# Altium footprint library Bauteile.PcbLib: 15 footprints
Each footprint in its own frame and in the unit in brackets; x right, y up, seen from the top. Pads: shape width x height; smd on the part's side, far side on the other; paste and mask are expansions set on the pad; w line width, h text height; cw(c..) or ccw(c..) is an arc to the next point about the centre after c.
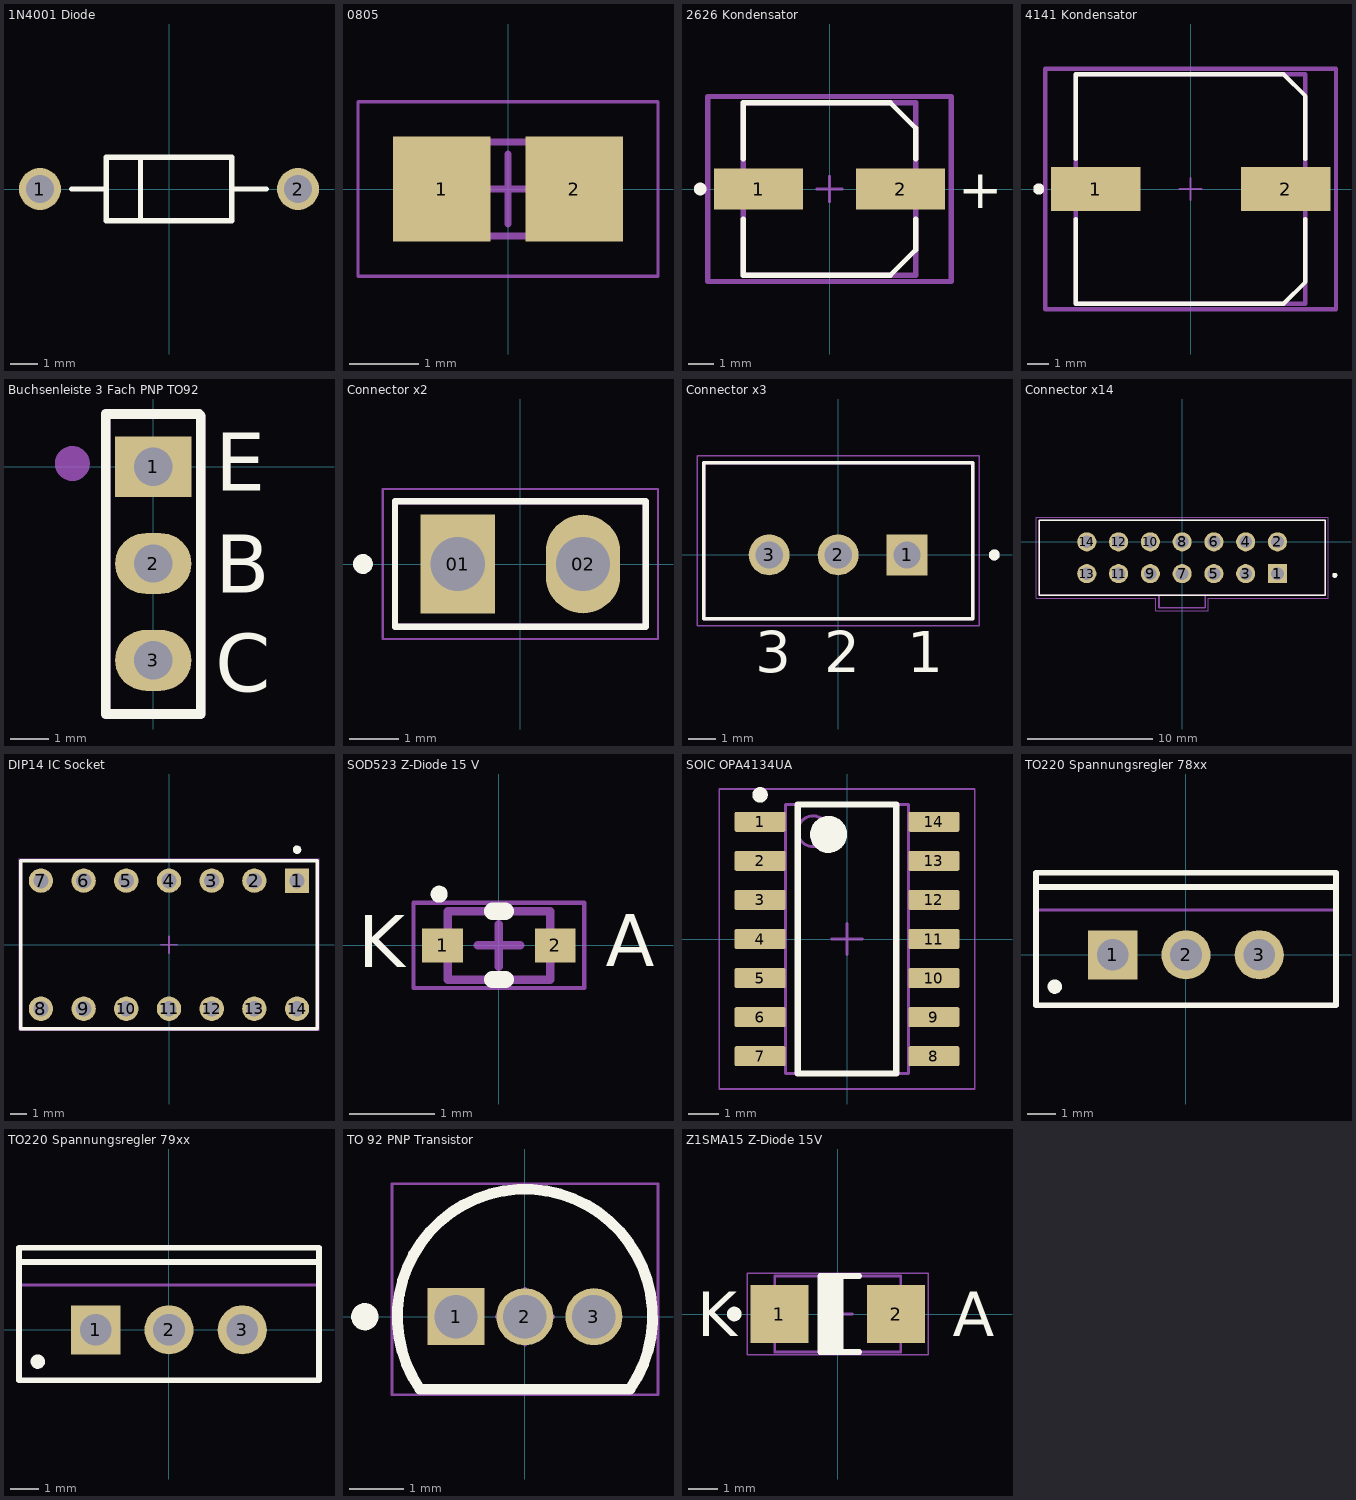
[diagram p0: the footprints below, top view; thin cyan lines are the x and y axes]

## 1N4001 Diode [mm] "AXIAL, 2-Leads, Diameter 2.35mm"
height 2.35
pads (2):
  round 1.55 hole 1.05: 1(-4.77,0) 2(4.77,0)
Top Overlay:
  lines w0.2: -3.595,0 -2.325,0 ; -1.055,-1.175 -1.055,1.175 ; 2.325,0 3.595,0 ; -2.325,-1.175 2.325,-1.175 2.325,1.175 -2.325,1.175 -2.325,-1.175

## 0805 [mm] "0805"
height 1.35
pads (2):
  rect 1.4x1.5 smd: 1(-0.95,0) 2(0.95,0)
Mechanical 13:
  lines w0.1: -1.05,-0.675 1.05,-0.675 1.05,0.675 -1.05,0.675 -1.05,-0.675
Mechanical 15:
  lines w0.05: -2.15,-1.25 2.15,-1.25 2.15,1.25 -2.15,1.25 -2.15,-1.25
  lines w0.1: -0.5,0 0.5,0 ; 0,-0.5 0,0.5
3D body "CAPC2012X14M.step": height 1.35, standoff 0, extent -1.05,-0.675 1.05,0.675

## 2626 Kondensator [mm] "2626 Kondensator d=6.6mm"
pads (2):
  rect 3.5x1.6 smd paste+0 mask+0: 1(-2.8,0) 2(2.8,0)
Top Overlay:
  circle w0.25: c-5.1,0 r0.125
  lines w0.2: -3.4,-1.175 -3.4,-3.4 2.4,-3.4 3.4,-2.4 3.4,-1.175 ; -3.4,1.175 -3.4,3.4 2.4,3.4 3.4,2.4 3.4,1.175
  text "+" at 5.08,-0.762 h1.52
Mechanical 5:
  lines w0.2: -4.8,-3.65 4.8,-3.65 4.8,3.65 -4.8,3.65 -4.8,-3.65
  text ".Designator" at 0,0.187 h1
Mechanical 13:
  lines w0.2: -3.4,-3.4 3.4,-3.4 3.4,3.4 -3.4,3.4 -3.4,-3.4
Mechanical 15:
  lines w0.2: -4.8,-3.65 4.8,-3.65 4.8,3.65 -4.8,3.65 -4.8,-3.65
Mechanical 16:
  lines w0.1: -0.5,0 0.5,0 ; 0,-0.5 0,0.5
3D body "Cap_Panasonic_20SVPK150M_eec.STEP": height 0.25, standoff 0, extent -4.8,-3.65 4.8,3.65

## 4141 Kondensator [mm]
pads (2):
  rect 4.1x2 smd paste+0 mask+0: 1(-4.35,0) 2(4.35,0)
Top Overlay:
  circle w0.25: c-6.95,0 r0.125
  lines w0.2: -5.25,-1.375 -5.25,-5.25 4.25,-5.25 5.25,-4.25 5.25,-1.375 ; -5.25,1.375 -5.25,5.25 4.25,5.25 5.25,4.25 5.25,1.375
Mechanical 5:
  lines w0.2: -6.65,-5.5 6.65,-5.5 6.65,5.5 -6.65,5.5 -6.65,-5.5
  text ".Designator" at 0,0.187 h1
Mechanical 13:
  lines w0.2: -5.25,-5.25 5.25,-5.25 5.25,5.25 -5.25,5.25 -5.25,-5.25
Mechanical 15:
  lines w0.2: -6.65,-5.5 6.65,-5.5 6.65,5.5 -6.65,5.5 -6.65,-5.5
Mechanical 16:
  lines w0.1: -0.5,0 0.5,0 ; 0,-0.5 0,0.5
3D body "Cap_Panasonic_EEEFK1J101P_eec.STEP": height 0.25, standoff 0, extent -6.65,-5.5 6.65,5.5

## Buchsenleiste 3 Fach PNP TO92 [mm] "Buchsenleiste 3 Fach"
pads (3):
  rect 2x1.6 hole 1: 1(0,0)
  oval 2x1.6 hole 1: 2(0,-2.54) 3(0,-5.08)
Top Overlay:
  lines w0.254: -1.25,-6.49 -1.25,1.385 1.2,1.385 1.25,1.335 1.25,-6.49 -1.25,-6.49
  text "C" at 1.629,-5.911 h1.52
  text "B" at 1.629,-3.311 h1.52
  text "E" at 1.629,-0.636 h1.52
Mechanical 13:
  circle w0.508: c-2.125,0.085 r0.203
  lines w0.254: -1.25,-6.49 -1.25,1.385 1.2,1.385 1.25,1.335 1.25,-6.49 -1.25,-6.49
  text "C" at 1.629,-5.911 h1.52
  text "B" at 1.629,-3.311 h1.52
  text "E" at 1.629,-0.636 h1.52
  text "'.Designator'" at 0.2,-1.94 h1.2
3D body "Buchsenleiste_x3.STEP": height 7.01, standoff -2.99, extent -1.27,-6.35 1.27,1.27

## Connector x2 [mm]
pads (2):
  rect 1.508x2 / inner round 1.45 / far side rect 1.45x1.45 hole 1.1: 01(-1.27,0)
  oval 1.508x2 hole 1.1: 02(1.27,0)
Top Overlay:
  circle w0.2: c-3.19,0 r0.1
  lines w0.127: -2.54,-1.27 -2.54,1.27 2.54,1.27 2.54,-1.27 -2.54,-1.27
Mechanical 13:
  circle w0.2: c-3.19,0 r0.1
  lines w0.127: -2.54,-1.27 -2.54,1.27 2.54,1.27 2.54,-1.27 -2.54,-1.27
Mechanical 15:
  lines w0.05: -2.79,-1.52 -2.79,1.52 2.79,1.52 2.79,-1.52 -2.79,-1.52

## Connector x3 [mm] "Connector x3"
height 7
pads (3):
  rect 1.508x1.508 / inner round 1.508 / far side rect 1.508x1.508 hole 1: 1(2.54,0)
  round 1.508 hole 1: 2(0,0) 3(-2.54,0)
Top Overlay:
  circle w0.2: c5.75,0 r0.1
  lines w0.127: -4.95,-2.35 -4.95,3.4 4.95,3.4 4.95,-2.35 -4.95,-2.35
  text "1" at 2.54,-4.318 h1.52
  text "2" at -0.508,-4.318 h1.52
  text "3" at -3.048,-4.318 h1.52
Mechanical 13:
  circle w0.2: c5.75,0 r0.1
  lines w0.127: -4.95,-2.35 -4.95,3.4 4.95,3.4 4.95,-2.35 -4.95,-2.35
Mechanical 15:
  lines w0.05: -5.2,-2.6 -5.2,3.65 5.2,3.65 5.2,-2.6 -5.2,-2.6
3D body "step_temp.STEP": height 7, standoff -3.4, extent -4.95,-2.35 4.95,3.4

## Connector x14 [mm]
pads (14):
  rect 1.53x1.53 hole 1.02: 1(7.62,-2.54)
  round 1.53 hole 1.02: 2(7.62,0) 3(5.08,-2.54) 4(5.08,0) 5(2.54,-2.54) 6(2.54,0) 7(0,-2.54) 8(0,0) 9(-2.54,-2.54) 10(-2.54,0) 11(-5.08,-2.54) 12(-5.08,0) 13(-7.62,-2.54) 14(-7.62,0)
Top Overlay:
  circle w0.2: c12.2,-2.67 r0.1
  lines w0.127: -11.43,-4.27 11.43,-4.27 11.43,1.73 -11.43,1.73 -11.43,-4.27
Mechanical 13:
  circle w0.2: c12.2,-2.67 r0.1
  lines w0.127: -1.85,-4.27 -1.85,-5.27 1.85,-5.27 1.85,-4.27 ; -1.85,-4.27 1.85,-4.27 ; -1.85,-4.27 -11.43,-4.27 -11.43,1.73 11.43,1.73 11.43,-4.27 1.85,-4.27
Mechanical 15:
  lines w0.05: -11.68,-4.52 -11.68,1.98 11.68,1.98 11.68,-4.52 2.1,-4.52 2.1,-5.52 -2.1,-5.52 -2.1,-4.52 -11.68,-4.52

## DIP14 IC Socket [mm] "Socket, 14-Leads, Body 17.653x10.0076mm, Pitch 2.54mm"
height 5.359
pads (14):
  rect 1.45x1.45 hole 0.911: 1(7.62,3.81)
  round 1.45 hole 0.911: 2(5.08,3.81) 3(2.54,3.81) 4(0,3.81) 5(-2.54,3.81) 6(-5.08,3.81) 7(-7.62,3.81) 8(-7.62,-3.81) 9(-5.08,-3.81) 10(-2.54,-3.81) 11(0,-3.81) 12(2.54,-3.81) 13(5.08,-3.81) 14(7.62,-3.81)
Top Overlay:
  circle w0.25: c7.62,5.654 r0.125
  lines w0.2: -8.826,-5.004 8.826,-5.004 8.826,5.004 -8.826,5.004 -8.826,-5.004
Mechanical 13:
  lines w0.1: -8.826,-5.004 -8.826,5.004 8.826,5.004 8.826,-5.004 -8.826,-5.004
Mechanical 15:
  lines w0.05: -8.926,-5.104 -8.926,5.104 8.926,5.104 8.926,-5.104 -8.926,-5.104
  lines w0.1: -0.5,0 0.5,0 ; 0,-0.5 0,0.5
3D body: height 5.36, standoff 0, extent -8.826,-5.004 8.826,5.004

## SOD523 Z-Diode 15 V [mm] "SOD523 Z-Diode 15 V"
height 0.7
pads (2):
  rect 0.48x0.4 smd: 1(-0.66,0) 2(0.66,0)
Top Overlay:
  circle w0.1: c-0.7,0.6 r0.05
  lines w0.2: -0.074,-0.4 0.074,-0.4 ; -0.074,0.4 0.074,0.4
  text "K" at -1.651,-0.254 h0.61
  text "A" at 1.254,-0.246 h0.61
Mechanical 13:
  lines w0.1: -0.6,-0.4 -0.6,0.4 0.6,0.4 0.6,-0.4 -0.6,-0.4
Mechanical 15:
  lines w0.05: -1,-0.5 1,-0.5 1,0.5 -1,0.5 -1,-0.5
  lines w0.1: -0.25,0 0.25,0 ; 0,-0.25 0,0.25
3D body: height 0.7, standoff 0, extent -0.6,-0.4 0.6,0.4

## SOIC OPA4134UA [mm] "SOIC, 14-Leads, Body 8.75x4mm, Pitch 1.27mm, IPC Low Density"
height 1.75
pads (14):
  rrect15% 1.65x0.65 smd: 1(-2.825,3.81) 2(-2.825,2.54) 3(-2.825,1.27) 4(-2.825,0) 5(-2.825,-1.27) 6(-2.825,-2.54) 7(-2.825,-3.81) 8(2.825,-3.81) 9(2.825,-2.54) 10(2.825,-1.27) 11(2.825,0) 12(2.825,1.27) 13(2.825,2.54) 14(2.825,3.81)
Top Overlay:
  circle w0.6: c-0.6,3.4 r0.3
  circle w0.25: c-2.825,4.685 r0.125
  lines w0.2: -1.6,-4.375 1.6,-4.375 1.6,4.375 -1.6,4.375 -1.6,-4.375
Mechanical 1:
  text ".Designator" at -1.575,-0.325 h0.8
Mechanical 13:
  circle w0.1: c-1.1,3.5 r0.5
  lines w0.1: -2,-4.375 2,-4.375 2,4.375 -2,4.375 -2,-4.375
Mechanical 15:
  lines w0.05: -4.15,-4.875 4.15,-4.875 4.15,4.875 -4.15,4.875 -4.15,-4.875
  lines w0.1: -0.5,0 0.5,0 ; 0,-0.5 0,0.5
3D body "SOIC-14akaD0014AakaM14A.stp": height 1.59, standoff -0.01, extent -3.023,-4.318 3.022,4.318

## TO220 Spannungsregler 78xx [mm] "TO, Thru-Hole, Vertical, Heatsink Mounted; 3 In-Line Leads; Pitch 2.54 mm"
height 19.7
pads (3):
  rect 1.7x1.7 hole 1.1: 1(-2.54,0)
  round 1.7 hole 1.1: 2(0,0) 3(2.54,0)
Top Overlay:
  circle w0.25: c-4.55,-1.1 r0.125
  lines w0.2: -5.2,2.35 5.2,2.35 ; -5.2,-1.75 -5.2,2.85 5.2,2.85 5.2,-1.75 -5.2,-1.75
Mechanical 13:
  lines w0.1: -5.2,1.55 5.2,1.55 ; -5.2,-1.75 5.2,-1.75 5.2,2.85 -5.2,2.85 -5.2,-1.75
Mechanical 15:
  lines w0.1: -0.5,0 0.5,0 ; 0,-0.5 0,0.5
3D body: height 19.7, standoff 13.05, extent -5.199,1.551 5.199,2.849
3D body: height 13.05, standoff 3.5, extent -5.25,-1.8 5.25,2.9

## TO220 Spannungsregler 79xx [mm] "TO, Thru-Hole, Vertical, Heatsink Mounted; 3 In-Line Leads; Pitch 2.54 mm"
height 19.7
pads (3):
  rect 1.7x1.7 hole 1.1: 1(-2.54,0)
  round 1.7 hole 1.1: 2(0,0) 3(2.54,0)
Top Overlay:
  circle w0.25: c-4.55,-1.1 r0.125
  lines w0.2: -5.2,2.35 5.2,2.35 ; -5.2,-1.75 5.2,-1.75 5.2,2.85 -5.2,2.85 -5.2,-1.75
Mechanical 13:
  lines w0.1: -5.2,1.55 5.2,1.55 ; -5.2,-1.75 -5.2,2.85 5.2,2.85 5.2,-1.75 -5.2,-1.75
Mechanical 15:
  lines w0.1: -0.5,0 0.5,0 ; 0,-0.5 0,0.5
3D body: height 13.05, standoff 3.5, extent -5.25,-1.8 5.25,2.9
3D body: height 19.7, standoff 13.05, extent -5.199,1.551 5.199,2.849

## TO 92 PNP Transistor [mm] "TO 92 PNP Transistor"
height 7.87
pads (3):
  rect 1.05x1.05 hole 0.8: 1(-1.27,0)
  round 1.05 hole 0.8: 2(0,0) 3(1.27,0)
Top Overlay:
  circle w0.25: c-2.95,0 r0.125
  lines w0.2: -1.934,-1.335 cw(c0,0) 1.934,-1.335 -1.934,-1.335
Mechanical 13:
  lines w0.1: -1.934,-1.335 cw(c0,0) 1.934,-1.335 -1.934,-1.335
Mechanical 15:
  lines w0.05: -2.45,-1.435 -2.45,2.45 2.45,2.45 2.45,-1.435 -2.45,-1.435
  lines w0.1: -0.5,0 0.5,0 ; 0,-0.5 0,0.5
3D body: height 7.87, standoff 2.54, extent -2.349,-1.334 2.357,2.359

## Z1SMA15 Z-Diode 15V [mm] "Molded, 2-Leads, Body 4.32x2.6mm"
height 2.2
pads (2):
  rect 2x2 smd: 1(-2,0) 2(2,0)
Top Overlay:
  circle w0.25: c-3.55,0 r0.125
  rectangle: -0.578,-1.3 0.2,1.3
  lines w0.2: 0.736,-1.3 -0.6,-1.3 -0.6,1.3 ; 0.736,1.3 -0.6,1.3 ; -0.6,1.3 -0.6,1.3
  text "K" at -4.826,-0.762 h1.52
  text "A" at 3.937,-0.762 h1.52
Mechanical 13:
  lines w0.1: -2.16,-1.3 2.16,-1.3 2.16,1.3 -2.16,1.3 -2.16,-1.3
Mechanical 15:
  lines w0.05: -3.1,-1.4 -3.1,1.4 3.1,1.4 3.1,-1.4 -3.1,-1.4
  lines w0.1: -0.5,0 0.5,0 ; 0,-0.5 0,0.5
3D body: height 2.2, standoff 0.05, extent -2.16,-1.3 2.16,1.3